# EAGLE library part CS534* (library jt-cirrus-logic)
CS5343/4 audio ADCs
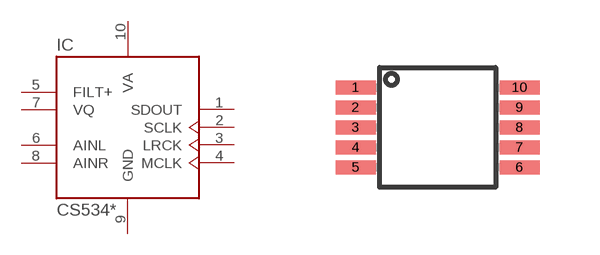
[diagram p0: symbol with the pads of TSSOP-10; footprint TSSOP-10]

Designator prefix IC

## CS5343 (FORMAT: I2S), CS5344 (FORMAT: Left-justified)  [TSSOP-10]
1  SDOUT  out
2  SCLK
3  LRCK
4  MCLK
5  FILT+
6  AINL
7  VQ
8  AINR
9  GND  pwr
10  VA  pwr

## Footprint TSSOP-10 (pad centres in mm)
TSSOP-10 package
smd 1 x 0.35: 1 0,0; 2 0,-0.5; 3 0,-1; 4 0,-1.5; 5 0,-2; 6 4.1,-2; 7 4.1,-1.5; 8 4.1,-1; 9 4.1,-0.5; 10 4.1,0